# EAGLE library part VNQ5050KTR-E (library PowerSSO-24)
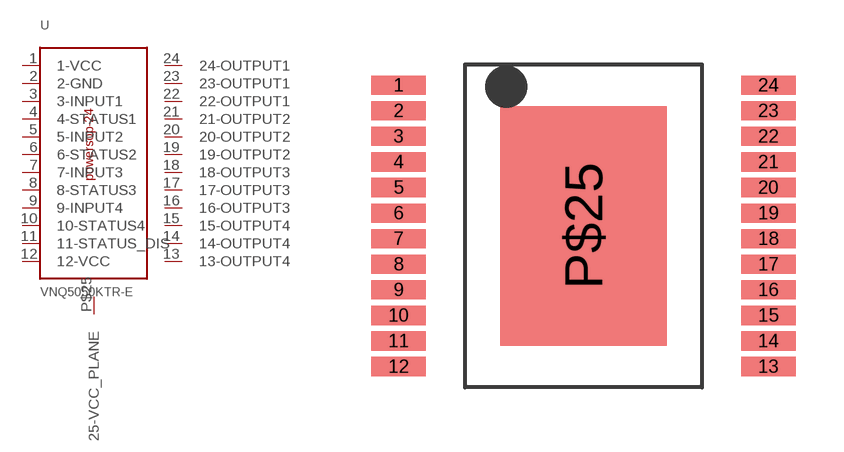
[diagram p0: symbol with the pads of POWERSSO24; footprint POWERSSO24]

Designator prefix -

## VNQ5050KTR-E  [POWERSSO24]
1  1-VCC
2  2-GND
3  3-INPUT1
4  4-STATUS1
5  5-INPUT2
6  6-STATUS2
7  7-INPUT3
8  8-STATUS3
9  9-INPUT4
10  10-STATUS4
11  11-STATUS_DIS
12  12-VCC
13  13-OUTPUT4
14  14-OUTPUT4
15  15-OUTPUT4
16  16-OUTPUT3
17  17-OUTPUT3
18  18-OUTPUT3
19  19-OUTPUT2
20  20-OUTPUT2
21  21-OUTPUT2
22  22-OUTPUT1
23  23-OUTPUT1
24  24-OUTPUT1
P$25  25-VCC_PLANE

## Footprint POWERSSO24 (pad centres in mm)
smd 1.7 x 0.6: 1 -5.782,4.4; 2 -5.782,3.6; 3 -5.782,2.8; 4 -5.782,2; 5 -5.782,1.2; 6 -5.782,0.4; 7 -5.782,-0.4; 8 -5.782,-1.2; 9 -5.782,-2; 10 -5.782,-2.8; 11 -5.782,-3.6; 12 -5.782,-4.4; 13 5.782,-4.4; 14 5.782,-3.6; 15 5.782,-2.8; 16 5.782,-2; 17 5.782,-1.2; 18 5.782,-0.4; 19 5.782,0.4; 20 5.782,1.2; 21 5.782,2; 22 5.782,2.8; 23 5.782,3.6; 24 5.782,4.4
smd 5.2 x 7.5: P$25 0,0